# Altium footprint library ON Semi Triacs.PcbLib: 9 footprints
Each footprint in its own frame and in the unit in brackets; x right, y up, seen from the top. Pads: shape width x height; smd on the part's side, far side on the other; paste and mask are expansions set on the pad; w line width, h text height; cw(c..) or ccw(c..) is an arc to the next point about the centre after c.
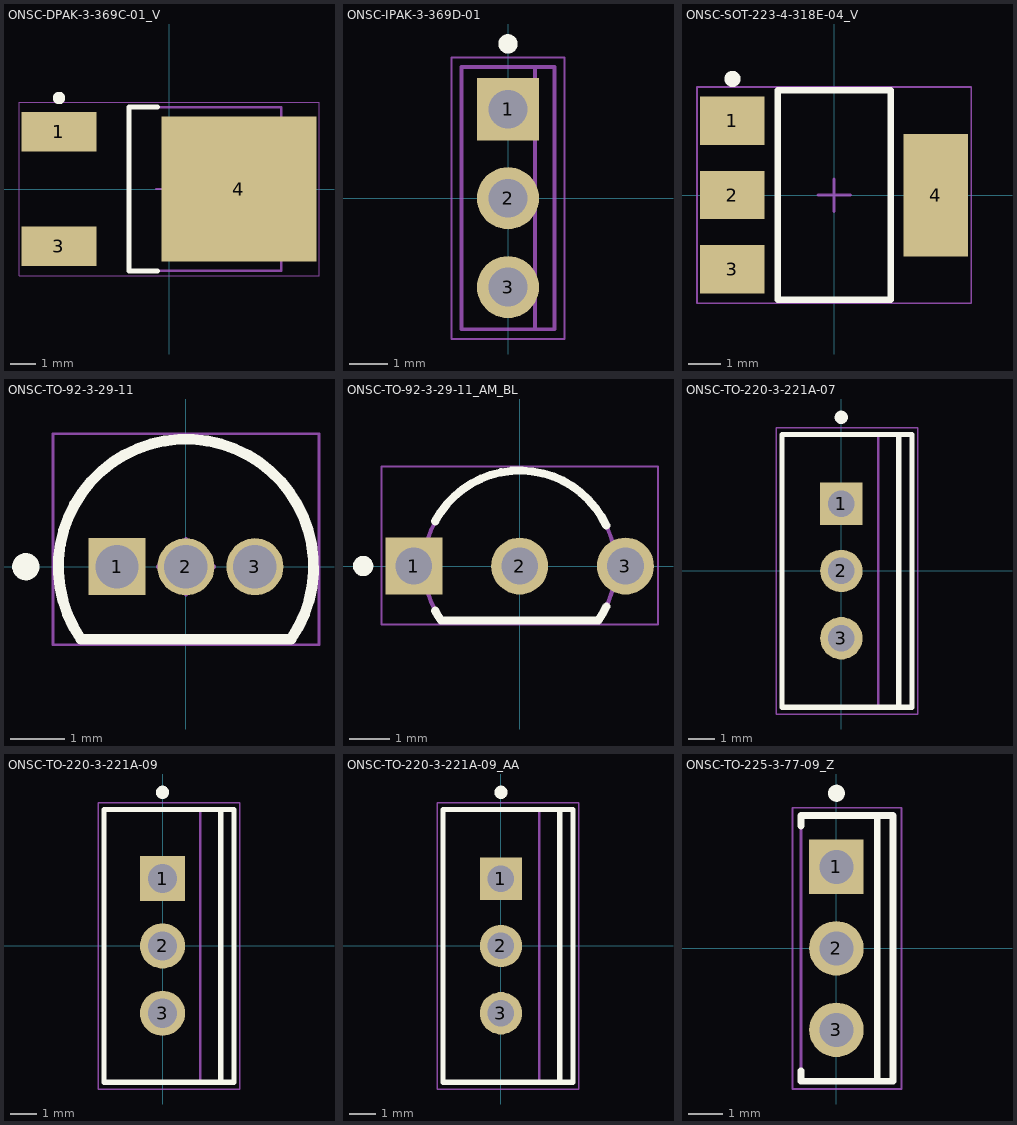
[diagram p0: the footprints below, top view; thin cyan lines are the x and y axes]

## ONSC-DPAK-3-369C-01_V [mm] "DPAK, 3-Leads, Body 6.54x6.095mm, Pitch 2.29mm"
height 2.38
pads (3):
  rect 3x1.6 smd: 1(-4.4,2.29) 3(-4.4,-2.29)
  rect 6.2x5.8 smd: 4(2.8,0)
Top Overlay:
  circle w0.25: c-4.4,3.64 r0.125
  lines w0.2: -0.453,-3.27 -1.6,-3.27 -1.6,3.27 -0.453,3.27
Mechanical 13:
  lines w0.1: -1.6,-3.27 4.495,-3.27 4.495,3.27 -1.6,3.27 -1.6,-3.27
Mechanical 15:
  lines w0.05: -6,-3.465 6,-3.465 6,3.465 -6,3.465 -6,-3.465
  lines w0.1: -0.5,0 0.5,0 ; 0,-0.5 0,0.5
3D body: height 2.38, standoff 0, extent -1.6,-3.27 4.495,3.27

## ONSC-IPAK-3-369D-01 [mm] "FM, 3-Leads, Body 6.75x2.4mm, Pitch 2.29mm"
height 8.52
pads (3):
  rect 1.6x1.6 hole 1: 1(0,2.29)
  round 1.6 hole 1: 2(0,0) 3(0,-2.29)
Top Overlay:
  circle w0.25: c0,3.975 r0.125
Mechanical 13:
  lines w0.1: 0.7,-3.375 0.7,3.375 ; -1.2,-3.375 -1.2,3.375 1.2,3.375 1.2,-3.375 -1.2,-3.375
Mechanical 15:
  lines w0.05: -1.45,-3.625 -1.45,3.625 1.45,3.625 1.45,-3.625 -1.45,-3.625
  lines w0.1: -0.5,0 0.5,0 ; 0,-0.5 0,0.5
3D body: height 0.06, standoff 0, extent -0.26,1.77 0.26,2.81
3D body: height 0.58, standoff 0.06, extent -0.26,1.77 0.26,2.81
3D body: height 0.63, standoff 0.58, extent -0.26,1.77 0.26,2.81
3D body: height 0, standoff -1.6, extent -0.26,1.895 0.26,2.685
3D body: height 0.06, standoff 0, extent -0.26,-0.52 0.26,0.52
3D body: height 0.58, standoff 0.06, extent -0.26,-0.52 0.26,0.52
3D body: height 0.63, standoff 0.58, extent -0.26,-0.52 0.26,0.52
3D body: height 0, standoff -1.6, extent -0.26,-0.395 0.26,0.395
3D body: height 0.06, standoff 0, extent -0.26,-2.81 0.26,-1.77
3D body: height 0.58, standoff 0.06, extent -0.26,-2.81 0.26,-1.77
3D body: height 0.63, standoff 0.58, extent -0.26,-2.81 0.26,-1.77
3D body: height 0, standoff -1.6, extent -0.26,-2.685 0.26,-1.895
3D body: height 7.42, standoff 0.63, extent -1.2,-3.375 1.2,3.375
3D body: height 8.52, standoff 7.42, extent 0.7,-2.475 1.2,2.475

## ONSC-SOT-223-4-318E-04_V [mm] "SOT223, 4-Leads, Body 6.5x3.5mm, Pitch 2.3mm"
height 1.75
pads (4):
  rect 2x1.5 smd: 1(-3.15,2.3) 2(-3.15,0) 3(-3.15,-2.3)
  rect 2x3.8 smd: 4(3.15,0)
Top Overlay:
  circle w0.25: c-3.15,3.6 r0.125
  lines w0.2: -1.75,-3.25 1.75,-3.25 1.75,3.25 -1.75,3.25 -1.75,-3.2
Mechanical 13:
  lines w0.1: -1.75,-3.25 1.75,-3.25 1.75,3.25 -1.75,3.25 -1.75,-3.25
Mechanical 15:
  lines w0.05: -4.25,-3.35 -4.25,3.35 4.25,3.35 4.25,-3.35 -4.25,-3.35
  lines w0.1: -0.5,0 0.5,0 ; 0,-0.5 0,0.5
3D body: height 1.75, standoff 0.02, extent -1.75,-3.25 1.75,3.25

## ONSC-TO-92-3-29-11 [mm] "TO, 3-Leads, Body Dia 4.7mm, Pitch 1.27mm"
height 7.87
pads (3):
  rect 1.05x1.05 hole 0.8: 1(-1.27,0)
  round 1.05 hole 0.8: 2(0,0) 3(1.27,0)
Top Overlay:
  circle w0.25: c-2.95,0 r0.125
  lines w0.2: -1.934,-1.335 cw(c0,0) 1.934,-1.335 -1.934,-1.335
Mechanical 13:
  lines w0.1: -1.934,-1.335 cw(c0,0) 1.934,-1.335 -1.934,-1.335
Mechanical 15:
  lines w0.05: -2.45,-1.435 2.45,-1.435 2.45,2.45 -2.45,2.45 -2.45,-1.435
  lines w0.1: -0.5,0 0.5,0 ; 0,-0.5 0,0.5
3D body: height 7.87, standoff 2.54, extent -2.349,-1.334 2.357,2.359

## ONSC-TO-92-3-29-11_AM_BL [mm] "TO, 3-Leads, Body Dia 4.7mm, Pitch 2.6mm"
height 8.923
pads (3):
  rect 1.4x1.4 hole 0.9: 1(-2.6,0)
  round 1.4 hole 0.9: 2(0,0) 3(2.6,0)
Top Overlay:
  circle w0.25: c-3.85,0 r0.125
  lines w0.2: -2.077,-1.1 ccw(c0,0) -1.934,-1.335 1.934,-1.335 ccw(c0,0) 2.129,-0.994 ; -2.077,1.1 cw(c0,0) 2.129,0.994
Mechanical 13:
  lines w0.1: -1.934,-1.335 cw(c0,0) 1.934,-1.335 -1.934,-1.335
Mechanical 15:
  lines w0.05: -3.4,-1.435 3.4,-1.435 3.4,2.45 -3.4,2.45 -3.4,-1.435
  lines w0.1: -0.5,0 0.5,0 ; 0,-0.5 0,0.5
3D body: height 8.92, standoff 1.5, extent -2.359,-1.335 2.359,2.351
3D body "PCB3.step": height 4, standoff -8.7, extent -2.836,-0.222 2.836,0.223

## ONSC-TO-220-3-221A-07 [mm] "FM, 3-Leads, Body 10.3x4.85mm, Pitch 2.54mm"
height 19.68
pads (3):
  rect 1.6x1.6 hole 1: 1(0,2.54)
  round 1.6 hole 1: 2(0,0) 3(0,-2.54)
Top Overlay:
  circle w0.25: c0,5.8 r0.125
  lines w0.2: 2.165,-5.15 2.165,5.15 ; -2.235,-5.15 -2.235,5.15 2.665,5.15 2.665,-5.15 -2.235,-5.15
Mechanical 13:
  lines w0.1: 1.39,-5.15 1.39,5.15 ; -2.21,-5.15 2.64,-5.15 2.64,5.15 -2.21,5.15 -2.21,-5.15
Mechanical 15:
  lines w0.05: -2.46,-5.4 2.89,-5.4 2.89,5.4 -2.46,5.4 -2.46,-5.4
  lines w0.1: -0.5,0 0.5,0 ; 0,-0.5 0,0.5
3D body: height 19.68, standoff 18.71, extent 1.39,-4.975 2.64,4.975
3D body: height 17.24, standoff 16.88, extent 1.39,-4.975 2.64,-1.825
3D body: height 17.24, standoff 16.88, extent 1.39,1.825 2.64,4.975
3D body: height 16.88, standoff 16.52, extent 1.39,-4.975 2.64,-1.825
3D body: height 16.88, standoff 16.52, extent 1.39,1.825 2.64,4.975
3D body: height 17.58, standoff 17.24, extent 1.39,-4.975 2.64,-1.79
3D body: height 17.58, standoff 17.24, extent 1.39,1.79 2.64,4.975
3D body: height 16.53, standoff 16.18, extent 1.39,-4.975 2.64,-1.79
3D body: height 16.53, standoff 16.18, extent 1.39,1.79 2.64,4.975
3D body: height 17.9, standoff 17.58, extent 1.39,-4.975 2.64,-1.686
3D body: height 17.9, standoff 17.58, extent 1.39,1.686 2.64,4.975
3D body: height 16.19, standoff 15.87, extent 1.39,-4.975 2.64,-1.686
3D body: height 16.19, standoff 15.87, extent 1.39,1.686 2.64,4.975
3D body: height 18.18, standoff 17.89, extent 1.39,-4.975 2.64,-1.517
3D body: height 18.18, standoff 17.89, extent 1.39,1.517 2.64,4.975
3D body: height 15.87, standoff 15.59, extent 1.39,-4.975 2.64,-1.517
3D body: height 15.87, standoff 15.59, extent 1.39,1.517 2.64,4.975
3D body: height 18.4, standoff 18.17, extent 1.39,-4.975 2.64,-1.29
3D body: height 18.4, standoff 18.17, extent 1.39,1.29 2.64,4.975
3D body: height 15.59, standoff 15.36, extent 1.39,-4.975 2.64,-1.29
3D body: height 15.59, standoff 15.36, extent 1.39,1.29 2.64,4.975
3D body: height 18.57, standoff 18.4, extent 1.39,-4.975 2.64,-1.014
3D body: height 18.57, standoff 18.4, extent 1.39,1.014 2.64,4.975
3D body: height 15.37, standoff 15.19, extent 1.39,-4.975 2.64,-1.014
3D body: height 15.37, standoff 15.19, extent 1.39,1.014 2.64,4.975
3D body: height 18.67, standoff 18.57, extent 1.39,-4.975 2.64,-0.698
3D body: height 18.67, standoff 18.57, extent 1.39,0.698 2.64,4.975
3D body: height 15.2, standoff 15.09, extent 1.39,-4.975 2.64,-0.698
3D body: height 15.2, standoff 15.09, extent 1.39,0.698 2.64,4.975
3D body: height 18.71, standoff 18.67, extent 1.39,-4.975 2.64,-0.356
3D body: height 18.71, standoff 18.67, extent 1.39,0.356 2.64,4.975
3D body: height 15.1, standoff 15.06, extent 1.39,-4.975 2.64,-0.356
3D body: height 15.1, standoff 15.06, extent 1.39,0.356 2.64,4.975
3D body: height 15.06, standoff 13.48, extent 1.39,-4.975 2.64,4.975
3D body: height 13.48, standoff 2.8, extent -2.21,-5.15 2.64,5.15
3D body: height 0, standoff -1.6, extent -0.23,-2.92 0.23,-2.16
3D body: height 2.8, standoff 0, extent -0.23,-3.21 0.23,-1.87
3D body: height 0, standoff -1.6, extent -0.23,-0.38 0.23,0.38
3D body: height 2.8, standoff 0, extent -0.23,-0.67 0.23,0.67
3D body: height 0, standoff -1.6, extent -0.23,2.16 0.23,2.92
3D body: height 2.8, standoff 0, extent -0.23,1.87 0.23,3.21

## ONSC-TO-220-3-221A-09 [mm] "FM, 3-Leads, Body 10.3x4.85mm, Pitch 2.54mm"
height 19.85
pads (3):
  rect 1.7x1.7 hole 1.1: 1(0,2.54)
  round 1.7 hole 1.1: 2(0,0) 3(0,-2.54)
Top Overlay:
  circle w0.25: c0,5.8 r0.125
  lines w0.2: 2.195,-5.15 2.195,5.15 ; -2.205,-5.15 2.695,-5.15 2.695,5.15 -2.205,5.15 -2.205,-5.15
Mechanical 13:
  lines w0.1: 1.42,-5.15 1.42,5.15 ; -2.18,-5.15 -2.18,5.15 2.67,5.15 2.67,-5.15 -2.18,-5.15
Mechanical 15:
  lines w0.05: -2.43,-5.4 -2.43,5.4 2.92,5.4 2.92,-5.4 -2.43,-5.4
  lines w0.1: -0.5,0 0.5,0 ; 0,-0.5 0,0.5
3D body: height 2.8, standoff 0, extent -0.25,1.87 0.25,3.21
3D body: height 0, standoff -1.6, extent -0.25,2.15 0.25,2.93
3D body: height 2.8, standoff 0, extent -0.25,-0.67 0.25,0.67
3D body: height 0, standoff -1.6, extent -0.25,-0.39 0.25,0.39
3D body: height 2.8, standoff 0, extent -0.25,-3.21 0.25,-1.87
3D body: height 0, standoff -1.6, extent -0.25,-2.93 0.25,-2.15
3D body: height 13.65, standoff 2.8, extent -2.18,-5.15 2.67,5.15
3D body: height 15.13, standoff 13.65, extent 1.42,-4.975 2.67,4.975
3D body: height 15.17, standoff 15.13, extent 1.42,0.376 2.67,4.975
3D body: height 15.17, standoff 15.13, extent 1.42,-4.975 2.67,-0.376
3D body: height 18.98, standoff 18.94, extent 1.42,0.376 2.67,4.975
3D body: height 18.98, standoff 18.94, extent 1.42,-4.975 2.67,-0.376
3D body: height 15.28, standoff 15.16, extent 1.42,0.737 2.67,4.975
3D body: height 15.28, standoff 15.16, extent 1.42,-4.975 2.67,-0.737
3D body: height 18.94, standoff 18.83, extent 1.42,0.737 2.67,4.975
3D body: height 18.94, standoff 18.83, extent 1.42,-4.975 2.67,-0.737
3D body: height 15.45, standoff 15.27, extent 1.42,1.069 2.67,4.975
3D body: height 15.45, standoff 15.27, extent 1.42,-4.975 2.67,-1.069
3D body: height 18.83, standoff 18.65, extent 1.42,1.069 2.67,4.975
3D body: height 18.83, standoff 18.65, extent 1.42,-4.975 2.67,-1.069
3D body: height 15.69, standoff 15.45, extent 1.42,1.361 2.67,4.975
3D body: height 15.69, standoff 15.45, extent 1.42,-4.975 2.67,-1.361
3D body: height 18.66, standoff 18.41, extent 1.42,1.361 2.67,4.975
3D body: height 18.66, standoff 18.41, extent 1.42,-4.975 2.67,-1.361
3D body: height 15.99, standoff 15.69, extent 1.42,1.601 2.67,4.975
3D body: height 15.99, standoff 15.69, extent 1.42,-4.975 2.67,-1.601
3D body: height 18.42, standoff 18.12, extent 1.42,1.601 2.67,4.975
3D body: height 18.42, standoff 18.12, extent 1.42,-4.975 2.67,-1.601
3D body: height 16.32, standoff 15.98, extent 1.42,1.778 2.67,4.975
3D body: height 16.32, standoff 15.98, extent 1.42,-4.975 2.67,-1.778
3D body: height 18.12, standoff 17.79, extent 1.42,1.778 2.67,4.975
3D body: height 18.12, standoff 17.79, extent 1.42,-4.975 2.67,-1.778
3D body: height 16.68, standoff 16.31, extent 1.42,1.888 2.67,4.975
3D body: height 16.68, standoff 16.31, extent 1.42,-4.975 2.67,-1.888
3D body: height 17.79, standoff 17.43, extent 1.42,1.888 2.67,4.975
3D body: height 17.79, standoff 17.43, extent 1.42,-4.975 2.67,-1.888
3D body: height 17.05, standoff 16.67, extent 1.42,1.925 2.67,4.975
3D body: height 17.05, standoff 16.67, extent 1.42,-4.975 2.67,-1.925
3D body: height 17.43, standoff 17.05, extent 1.42,1.925 2.67,4.975
3D body: height 17.43, standoff 17.05, extent 1.42,-4.975 2.67,-1.925
3D body: height 19.85, standoff 18.98, extent 1.42,-4.975 2.67,4.975

## ONSC-TO-220-3-221A-09_AA [mm] "FM, 3-Leads, Body 10.3x4.85mm, Pitch 2.54mm"
height 19.68
pads (3):
  rect 1.6x1.6 hole 1: 1(0,2.54)
  round 1.6 hole 1: 2(0,0) 3(0,-2.54)
Top Overlay:
  circle w0.25: c0,5.8 r0.125
  lines w0.2: 2.215,-5.15 2.215,5.15 ; -2.185,-5.15 2.715,-5.15 2.715,5.15 -2.185,5.15 -2.185,-5.15
Mechanical 13:
  lines w0.1: 1.44,-5.15 1.44,5.15 ; -2.16,-5.15 -2.16,5.15 2.69,5.15 2.69,-5.15 -2.16,-5.15
Mechanical 15:
  lines w0.05: -2.41,-5.4 -2.41,5.4 2.94,5.4 2.94,-5.4 -2.41,-5.4
  lines w0.1: -0.5,0 0.5,0 ; 0,-0.5 0,0.5
3D body: height 2.8, standoff 0, extent -0.275,1.87 0.275,3.21
3D body: height 0, standoff -1.6, extent -0.275,2.16 0.275,2.92
3D body: height 2.8, standoff 0, extent -0.275,-0.67 0.275,0.67
3D body: height 0, standoff -1.6, extent -0.275,-0.38 0.275,0.38
3D body: height 2.8, standoff 0, extent -0.275,-3.21 0.275,-1.87
3D body: height 0, standoff -1.6, extent -0.275,-2.92 0.275,-2.16
3D body: height 13.48, standoff 2.8, extent -2.16,-5.15 2.69,5.15
3D body: height 15.06, standoff 13.48, extent 1.44,-4.975 2.69,4.975
3D body: height 15.1, standoff 15.06, extent 1.44,0.356 2.69,4.975
3D body: height 15.1, standoff 15.06, extent 1.44,-4.975 2.69,-0.356
3D body: height 18.71, standoff 18.67, extent 1.44,0.356 2.69,4.975
3D body: height 18.71, standoff 18.67, extent 1.44,-4.975 2.69,-0.356
3D body: height 15.2, standoff 15.09, extent 1.44,0.698 2.69,4.975
3D body: height 15.2, standoff 15.09, extent 1.44,-4.975 2.69,-0.698
3D body: height 18.67, standoff 18.57, extent 1.44,0.698 2.69,4.975
3D body: height 18.67, standoff 18.57, extent 1.44,-4.975 2.69,-0.698
3D body: height 15.37, standoff 15.19, extent 1.44,1.014 2.69,4.975
3D body: height 15.37, standoff 15.19, extent 1.44,-4.975 2.69,-1.014
3D body: height 18.57, standoff 18.4, extent 1.44,1.014 2.69,4.975
3D body: height 18.57, standoff 18.4, extent 1.44,-4.975 2.69,-1.014
3D body: height 15.59, standoff 15.36, extent 1.44,1.29 2.69,4.975
3D body: height 15.59, standoff 15.36, extent 1.44,-4.975 2.69,-1.29
3D body: height 18.4, standoff 18.17, extent 1.44,1.29 2.69,4.975
3D body: height 18.4, standoff 18.17, extent 1.44,-4.975 2.69,-1.29
3D body: height 15.87, standoff 15.59, extent 1.44,1.517 2.69,4.975
3D body: height 15.87, standoff 15.59, extent 1.44,-4.975 2.69,-1.517
3D body: height 18.18, standoff 17.89, extent 1.44,1.517 2.69,4.975
3D body: height 18.18, standoff 17.89, extent 1.44,-4.975 2.69,-1.517
3D body: height 16.19, standoff 15.87, extent 1.44,1.686 2.69,4.975
3D body: height 16.19, standoff 15.87, extent 1.44,-4.975 2.69,-1.686
3D body: height 17.9, standoff 17.58, extent 1.44,1.686 2.69,4.975
3D body: height 17.9, standoff 17.58, extent 1.44,-4.975 2.69,-1.686
3D body: height 16.53, standoff 16.18, extent 1.44,1.79 2.69,4.975
3D body: height 16.53, standoff 16.18, extent 1.44,-4.975 2.69,-1.79
3D body: height 17.58, standoff 17.24, extent 1.44,1.79 2.69,4.975
3D body: height 17.58, standoff 17.24, extent 1.44,-4.975 2.69,-1.79
3D body: height 16.88, standoff 16.52, extent 1.44,1.825 2.69,4.975
3D body: height 16.88, standoff 16.52, extent 1.44,-4.975 2.69,-1.825
3D body: height 17.24, standoff 16.88, extent 1.44,1.825 2.69,4.975
3D body: height 17.24, standoff 16.88, extent 1.44,-4.975 2.69,-1.825
3D body: height 19.68, standoff 18.71, extent 1.44,-4.975 2.69,4.975

## ONSC-TO-225-3-77-09_Z [mm] "FM, 3-Leads, Body 7.75x2.7mm, Pitch 2.39mm"
height 13.45
pads (3):
  rect 1.6x1.6 hole 1: 1(0,2.39)
  round 1.6 hole 1: 2(0,0) 3(0,-2.39)
Top Overlay:
  circle w0.25: c0,4.55 r0.125
  lines w0.2: -1.04,-3.59 -1.04,-3.9 1.66,-3.9 1.66,3.9 -1.04,3.9 -1.04,3.59 ; 1.2,-3.9 1.2,3.9
Mechanical 13:
  lines w0.1: 1.66,-3.875 1.66,3.875 ; 1.66,-3.875 -1.04,-3.875 -1.04,3.875 1.66,3.875 ; 1.66,-3.875 1.66,3.875
Mechanical 15:
  lines w0.05: -1.29,-4.125 1.91,-4.125 1.91,4.125 -1.29,4.125 -1.29,-4.125
  lines w0.1: -0.5,0 0.5,0 ; 0,-0.5 0,0.5
3D body: height 13.45, standoff 13.45, extent 1.66,-3.8 1.66,3.8
3D body: height 13.45, standoff 1.27, extent -1.04,-3.875 1.66,3.875
3D body: height 0, standoff -1.6, extent -0.255,-2.77 0.255,-2.01
3D body: height 1.27, standoff 0, extent -0.255,-2.94 0.255,-1.84
3D body: height 0, standoff -1.6, extent -0.255,-0.38 0.255,0.38
3D body: height 1.27, standoff 0, extent -0.255,-0.55 0.255,0.55
3D body: height 0, standoff -1.6, extent -0.255,2.01 0.255,2.77
3D body: height 1.27, standoff 0, extent -0.255,1.84 0.255,2.94